# Altium footprint library PZEM-004T.PcbLib: 19 footprints (part 1 of 2)
Each footprint in its own frame and in the unit in brackets; x right, y up, seen from the top. Pads: shape width x height; smd on the part's side, far side on the other; paste and mask are expansions set on the pad; w line width, h text height; cw(c..) or ccw(c..) is an arc to the next point about the centre after c.
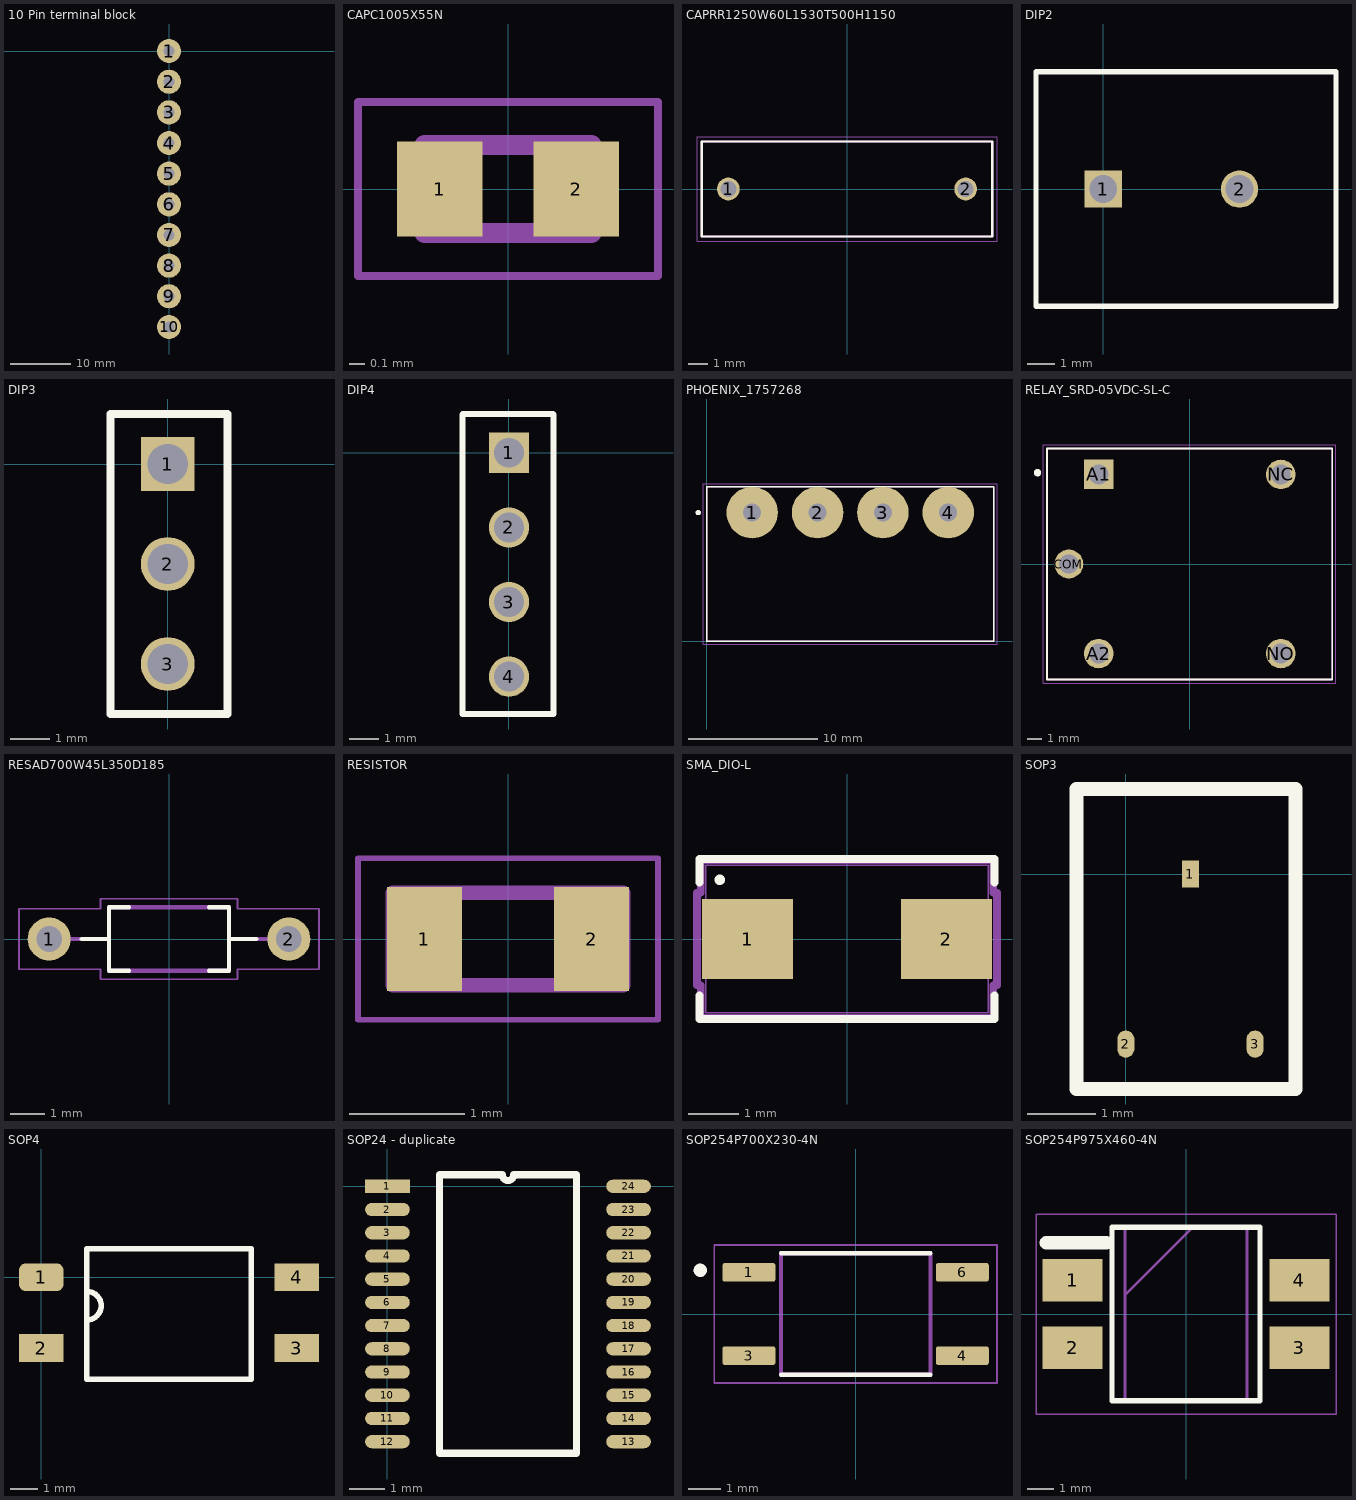
[diagram p0: the footprints below, top view; thin cyan lines are the x and y axes]

## 10 Pin terminal block [mm]
pads (10):
  round 4 hole 1.8: 1(0,0)
  round 4 hole 1.8 mask+0.3: 2(0,-5.08) 3(0,-10.16) 4(0,-15.24) 5(0,-20.32) 6(0,-25.4) 7(0,-30.48) 8(0,-35.56) 9(0,-40.64) 10(0,-45.72)
3D body "1757323.stp": height 8.57, standoff -3.5, extent -1.975,-49.275 10.025,3.525

## CAPC1005X55N [mm]
pads (2):
  rect 0.54x0.6 smd mask+0.02: 1(-0.432,0) 2(0.432,0)
Mechanical 13:
  lines w0.127: -0.53,-0.28 -0.53,0.28 0.53,0.28 0.53,-0.28 -0.53,-0.28
Mechanical 15:
  lines w0.05: -0.95,-0.55 -0.95,0.55 0.95,0.55 0.95,-0.55 -0.95,-0.55
3D body "GQM1555C2DR10BB01D.STEP": height -0.41, standoff -0.96, extent -0.45,-0.225 0.55,0.275

## CAPRR1250W60L1530T500H1150 [mm]
pads (2):
  round 1.2 hole 0.85: 1(-6.25,0) 2(6.25,0)
Top Overlay:
  lines w0.127: -7.65,-2.5 -7.65,2.5 7.65,2.5 7.65,-2.5 -7.65,-2.5
Mechanical 13:
  lines w0.127: -7.65,-2.5 7.65,-2.5 7.65,2.5 -7.65,2.5 -7.65,-2.5
Mechanical 15:
  lines w0.05: -7.9,-2.75 7.9,-2.75 7.9,2.75 -7.9,2.75 -7.9,-2.75
3D body "ECQUAAF103M.STEP": height 11.5, standoff -4.5, extent -7.643,-2.473 7.657,2.527

## DIP2 [mm]
pads (2):
  rect 1.37x1.37 hole 1.02: 1(0,0)
  round 1.37 hole 1.02: 2(5,0)
Top Overlay:
  lines w0.2: -2.467,-4.298 -2.467,4.304 8.541,4.304 8.541,-4.298 -2.467,-4.298
3D body: height 7, standoff -4.1, extent -2.493,-3.445 8.357,3.514

## DIP3 [mm]
pads (3):
  rect 1.37x1.37 hole 1.02: 1(0,0)
  round 1.37 hole 1.02: 2(0,-2.54) 3(0,-5.08)
Top Overlay:
  lines w0.2: -1.456,-6.35 1.52,-6.35 1.52,1.264 1.514,1.27 -1.456,1.27 -1.456,-6.35

## DIP4 [mm]
pads (4):
  rect 1.37x1.37 hole 1.02: 1(0,0)
  round 1.37 hole 1.02: 2(0,-2.54) 3(0,-5.08) 4(0,-7.62)
Top Overlay:
  lines w0.2: -1.588,-8.89 1.52,-8.89 1.52,1.302 1.503,1.319 -1.573,1.319 -1.588,1.304 -1.588,-8.89

## PHOENIX_1757268 [mm]
pads (4):
  round 4 hole 1.4: 1(3.54,10) 2(8.62,10) 3(13.7,10) 4(18.78,10)
Top Overlay:
  circle w0.2: c-0.65,10 r0.1
  lines w0.127: 0,0 0,12 22.32,12 22.32,0 0,0
Mechanical 13:
  circle w0.2: c-0.65,10 r0.1
  lines w0.127: 0,0 0,12 22.32,12 22.32,0 0,0
Mechanical 15:
  lines w0.05: -0.25,-0.25 -0.25,12.25 22.57,12.25 22.57,-0.25 -0.25,-0.25

## RELAY_SRD-05VDC-SL-C [mm]
pads (5):
  rect 1.98x1.98 / inner round 1.98 / far side rect 1.98x1.98 hole 1.32: A1(-6.1,6)
  round 1.98 hole 1.32: A2(-6.1,-6) NC(6.1,6) NO(6.1,-6)
  round 1.935 hole 1.29: COM(-8.1,0)
Top Overlay:
  circle w0.3: c-10.2,6.119 r0.1
  lines w0.127: -9.55,-7.75 9.55,-7.75 9.55,7.75 -9.55,7.75 -9.55,-7.75
Mechanical 13:
  lines w0.127: -9.55,-7.75 9.55,-7.75 9.55,7.75 -9.55,7.75 -9.55,-7.75
Mechanical 15:
  lines w0.05: -9.8,-8 9.8,-8 9.8,8 -9.8,8 -9.8,-8
3D body "step_temp.STEP": height 15.8, standoff -3, extent -9.6,-7.8 9.6,7.8

## RESAD700W45L350D185 [mm]
pads (2):
  round 1.258 hole 0.75: 1(-3.5,0) 2(3.5,0)
Top Overlay:
  lines w0.127: -2.55,0 -1.75,0 ; -1.17,-0.925 -1.75,-0.925 -1.75,0 ; -1.17,0.925 -1.75,0.925 -1.75,0 ; 1.17,-0.925 1.75,-0.925 1.75,0 ; 1.17,0.925 1.75,0.925 1.75,0 ; 2.55,0 1.75,0
Mechanical 13:
  lines w0.127: -2.925,0 -1.75,0 ; 2.925,0 1.75,0 ; -1.75,0 -1.75,0.925 1.75,0.925 1.75,0 ; -1.75,0 -1.75,-0.925 1.75,-0.925 1.75,0
Mechanical 15:
  lines w0.05: -4.38,-0.88 -4.38,0.88 -2,0.88 -2,1.175 2,1.175 2,0.88 4.38,0.88 4.38,-0.88 2,-0.88 2,-1.175 -2,-1.175 -2,-0.88 -4.38,-0.88
3D body "step_temp.STEP": height 1.85, standoff -23.57, extent -3.725,-0.925 3.725,0.925

## RESISTOR [mm]
pads (2):
  rect 0.65x0.9 smd: 1(-0.725,0) 2(0.725,0)
Mechanical 13:
  lines w0.127: -1,-0.4 -1,0.4 1,0.4 1,-0.4 -1,-0.4
Mechanical 15:
  lines w0.05: -1.3,-0.7 -1.3,0.7 1.3,0.7 1.3,-0.7 -1.3,-0.7
3D body "ERA-3ARB103V.STEP": height 0.45, standoff 0, extent -0.8,-0.4 0.8,0.4

## SMA_DIO-L [mm]
pads (2):
  rect 1.799x1.579 smd paste+0 mask+0: 1(-1.971,0) 2(1.971,0)
Top Overlay:
  circle w0.2: c-2.52,1.171 r0.005
  lines w0.152: -2.922,-1.118 -2.922,-1.587 2.922,-1.587 2.922,-1.118 ; -2.922,1.118 -2.922,1.587 2.922,1.587 2.922,1.118
Mechanical 13:
  lines w0.025: -2.795,-1.46 2.795,-1.46 2.795,1.46 -2.795,1.46 -2.795,-1.46
Mechanical 15:
  lines w0.152: -2.973,-0.917 -2.973,0.917 -2.897,0.917 -2.897,1.562 2.897,1.562 2.897,0.917 2.973,0.917 2.973,-0.917 2.897,-0.917 2.897,-1.562 -2.897,-1.562 -2.897,-0.917 -2.973,-0.917
3D body "SMA_DIO.step": height 2.35, standoff 0, extent -2.795,-1.46 2.795,1.46

## SOP3 [mm]
pads (3):
  rect 0.25x0.4 smd: 1(0.95,0)
  oval 0.25x0.4 smd: 2(0,-2.5) 3(1.9,-2.5)
Top Overlay:
  lines w0.2: 0.325,1.25 2.494,1.25 2.494,-3.159 -0.726,-3.159 -0.726,1.25 1.575,1.25

## SOP4 [mm]
pads (4):
  rrect50% 1.6x1 smd: 1(0,0)
  rect 1.6x1 smd: 2(0,-2.54) 3(9.15,-2.54) 4(9.15,0)
Top Overlay:
  lines w0.2: 1.635,-1.53 ccw(c1.635,-1.02) 1.635,-0.51 ; 1.635,-3.655 7.515,-3.655 7.515,1.02 5.085,1.02 1.635,1.02 1.635,-3.655
3D body "LTV-816S_LTO.step": height 4.6, standoff 0, extent -0.613,-3.848 9.851,1.258

## SOP24 - duplicate [mm]
pads (24):
  rect 1.25x0.37 smd: 1(0,0)
  oval 1.25x0.37 smd: 2(0,-0.65) 3(0,-1.3) 4(0,-1.95) 5(0,-2.6) 6(0,-3.25) 7(0,-3.9) 8(0,-4.55) 9(0,-5.2) 10(0,-5.85) 11(0,-6.5) 12(0,-7.15) 13(6.75,-7.15) 14(6.75,-6.5) 15(6.75,-5.85) 16(6.75,-5.2) 17(6.75,-4.55) 18(6.75,-3.9) 19(6.75,-3.25) 20(6.75,-2.6) 21(6.75,-1.95) 22(6.75,-1.3) 23(6.75,-0.65) 24(6.75,0)
Top Overlay:
  lines w0.2: 1.46,-7.475 1.46,0.325 3.213,0.325 ccw(c3.375,0.325) 3.537,0.325 5.29,0.325 5.29,-7.475 1.46,-7.475
3D body "MAX208EAG+.STEP": height 1.99, standoff 0, extent -0.551,-7.66 7.224,0.54

## SOP254P700X230-4N [mm]
pads (4):
  rrect25% 1.61x0.57 smd: 1(-3.25,1.27) 3(-3.25,-1.27) 4(3.25,-1.27) 6(3.25,1.27)
Top Overlay:
  circle w0.2: c-4.733,1.332 r0.1
  lines w0.127: -2.275,-1.85 2.275,-1.85 ; -2.275,1.85 2.275,1.85
Mechanical 13:
  circle w0.2: c-4.733,1.332 r0.1
  lines w0.127: -2.275,-1.85 2.275,-1.85 2.275,1.85 -2.275,1.85 -2.275,-1.85
Mechanical 15:
  lines w0.05: -4.305,-2.1 4.305,-2.1 4.305,2.1 -4.305,2.1 -4.305,-2.1
3D body "TLP187(TPL,E.STEP": height 2.3, standoff 0, extent -3.392,-1.882 3.608,1.818

## SOP254P975X460-4N [mm]
pads (4):
  rect 2.25x1.6 smd: 1(-4.25,1.27) 2(-4.25,-1.27) 3(4.25,-1.27) 4(4.25,1.27)
Top Overlay:
  lines w0.2: -2.775,-3.25 -2.775,3.25 2.775,3.25 2.775,-3.25 -2.775,-3.25
  lines w0.508: -5.248,2.674 -2.998,2.674
Mechanical 13:
  lines w0.05: -5.625,-3.75 -5.625,3.75 5.625,3.75 5.625,-3.75 -5.625,-3.75
  lines w0.1: -2.29,0.71 0.25,3.25 ; -2.29,-3.25 -2.29,3.25 2.29,3.25 2.29,-3.25 -2.29,-3.25
3D body "step_temp.STEP": height 4, standoff 0, extent -4.875,-2.29 4.875,2.29